# EAGLE library part RASPBERRYPI-4B (library innove-raspberrypi)
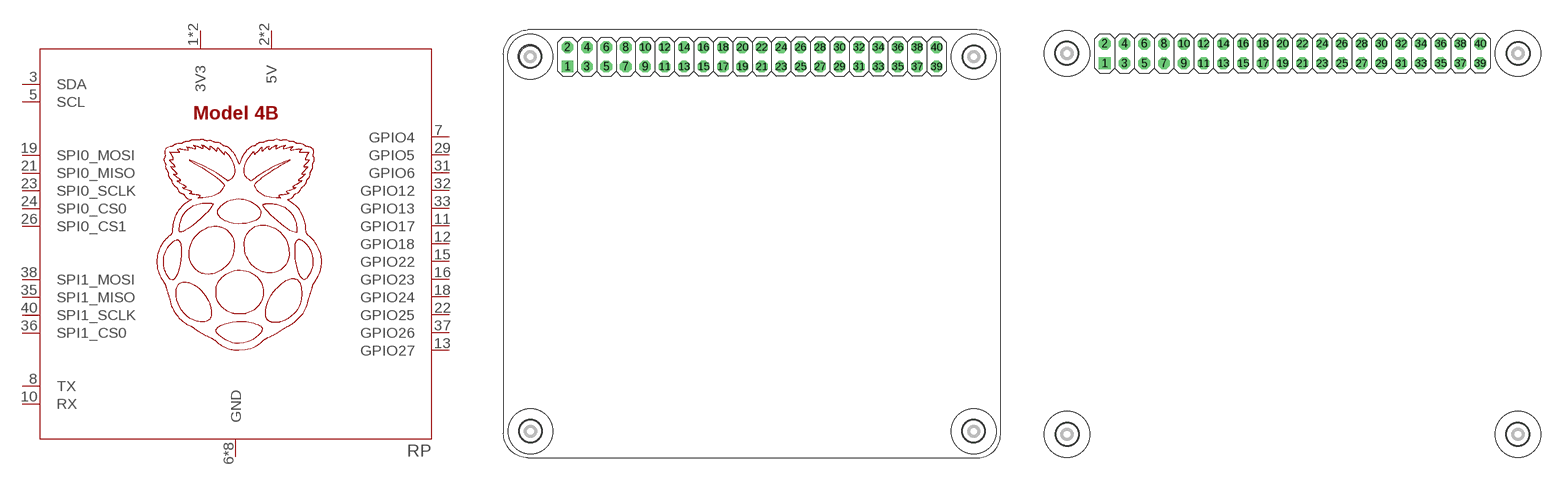
[diagram p0: symbol with the pads of RPI-4B; footprints RPI-4B, RPI-4B-NODIM]

Designator prefix RP

## RASPBERRYPI-4B  [RPI-4B]
1  3V3  pwr
2  5V  pwr
3  SDA
4  5V  pwr
5  SCL
6  GND  pwr
7  GPIO4
8  TX
9  GND  pwr
10  RX
11  GPIO17
12  GPIO18
13  GPIO27
14  GND  pwr
15  GPIO22
16  GPIO23
17  3V3  pwr
18  GPIO24
19  SPI0_MOSI
20  GND  pwr
21  SPI0_MISO
22  GPIO25
23  SPI0_SCLK
24  SPI0_CS0
25  GND  pwr
26  SPI0_CS1
29  GPIO5
30  GND  pwr
31  GPIO6
32  GPIO12
33  GPIO13
34  GND  pwr
35  SPI1_MISO
36  SPI1_CS0
37  GPIO26
38  SPI1_MOSI
39  GND  pwr
40  SPI1_SCLK

## RASPBERRYPI-4B-NODIM  [RPI-4B-NODIM]
Pads as for RPI-4B

## RASPBERRYPI-4B-M3  [RPI-4B-M3]
Pads as for RPI-4B

## Footprint RPI-4B (pad centres in mm)
drill 1.016 square: 1 8.37,51.21
drill 1.016 octagon: 2 8.37,53.75; 3 10.91,51.21; 4 10.91,53.75; 5 13.45,51.21; 6 13.45,53.75; 7 15.99,51.21; 8 15.99,53.75; 9 18.53,51.21; 10 18.53,53.75; 11 21.07,51.21; 12 21.07,53.75; 13 23.61,51.21; 14 23.61,53.75; 15 26.15,51.21; 16 26.15,53.75; 17 28.69,51.21; 18 28.69,53.75; 19 31.23,51.21; 20 31.23,53.75; 21 33.77,51.21; 22 33.77,53.75; 23 36.31,51.21; 24 36.31,53.75; 25 38.85,51.21; 26 38.85,53.75; 27 41.39,51.21; 28 41.39,53.75; 29 43.93,51.21; 30 43.93,53.75; 31 46.47,51.21; 32 46.47,53.75; 33 49.01,51.21; 34 49.01,53.75; 35 51.55,51.21; 36 51.55,53.75; 37 54.09,51.21; 38 54.09,53.75; 39 56.63,51.21; 40 56.63,53.75
hole 2.8 at 3.5,52.5
hole 2.8 at 3.53,3.47
hole 2.8 at 61.48,3.47
hole 2.8 at 61.51,52.49

## Footprint RPI-4B-NODIM (pad centres in mm)
drill 1.016 square: 1 8.37,51.21
drill 1.016 octagon: 2 8.37,53.75; 3 10.91,51.21; 4 10.91,53.75; 5 13.45,51.21; 6 13.45,53.75; 7 15.99,51.21; 8 15.99,53.75; 9 18.53,51.21; 10 18.53,53.75; 11 21.07,51.21; 12 21.07,53.75; 13 23.61,51.21; 14 23.61,53.75; 15 26.15,51.21; 16 26.15,53.75; 17 28.69,51.21; 18 28.69,53.75; 19 31.23,51.21; 20 31.23,53.75; 21 33.77,51.21; 22 33.77,53.75; 23 36.31,51.21; 24 36.31,53.75; 25 38.85,51.21; 26 38.85,53.75; 27 41.39,51.21; 28 41.39,53.75; 29 43.93,51.21; 30 43.93,53.75; 31 46.47,51.21; 32 46.47,53.75; 33 49.01,51.21; 34 49.01,53.75; 35 51.55,51.21; 36 51.55,53.75; 37 54.09,51.21; 38 54.09,53.75; 39 56.63,51.21; 40 56.63,53.75
hole 2.8 at 3.5,52.5
hole 2.8 at 3.53,3.47
hole 2.8 at 61.48,3.47
hole 2.8 at 61.51,52.49

## Footprint RPI-4B-M3 (pad centres in mm)
Raspberry Pi with M3 holes
drill 1.016 square: 1 8.37,51.21
drill 1.016 octagon: 2 8.37,53.75; 3 10.91,51.21; 4 10.91,53.75; 5 13.45,51.21; 6 13.45,53.75; 7 15.99,51.21; 8 15.99,53.75; 9 18.53,51.21; 10 18.53,53.75; 11 21.07,51.21; 12 21.07,53.75; 13 23.61,51.21; 14 23.61,53.75; 15 26.15,51.21; 16 26.15,53.75; 17 28.69,51.21; 18 28.69,53.75; 19 31.23,51.21; 20 31.23,53.75; 21 33.77,51.21; 22 33.77,53.75; 23 36.31,51.21; 24 36.31,53.75; 25 38.85,51.21; 26 38.85,53.75; 27 41.39,51.21; 28 41.39,53.75; 29 43.93,51.21; 30 43.93,53.75; 31 46.47,51.21; 32 46.47,53.75; 33 49.01,51.21; 34 49.01,53.75; 35 51.55,51.21; 36 51.55,53.75; 37 54.09,51.21; 38 54.09,53.75; 39 56.63,51.21; 40 56.63,53.75
hole 3.3 at 3.5,52.5
hole 3.3 at 3.53,3.47
hole 3.3 at 61.48,3.47
hole 3.3 at 61.51,52.49